# Altium footprint library 3313J1103E.PcbLib: 1 footprints
Each footprint in its own frame and in the unit in brackets; x right, y up, seen from the top. Pads: shape width x height; smd on the part's side, far side on the other; paste and mask are expansions set on the pad; w line width, h text height; cw(c..) or ccw(c..) is an arc to the next point about the centre after c.
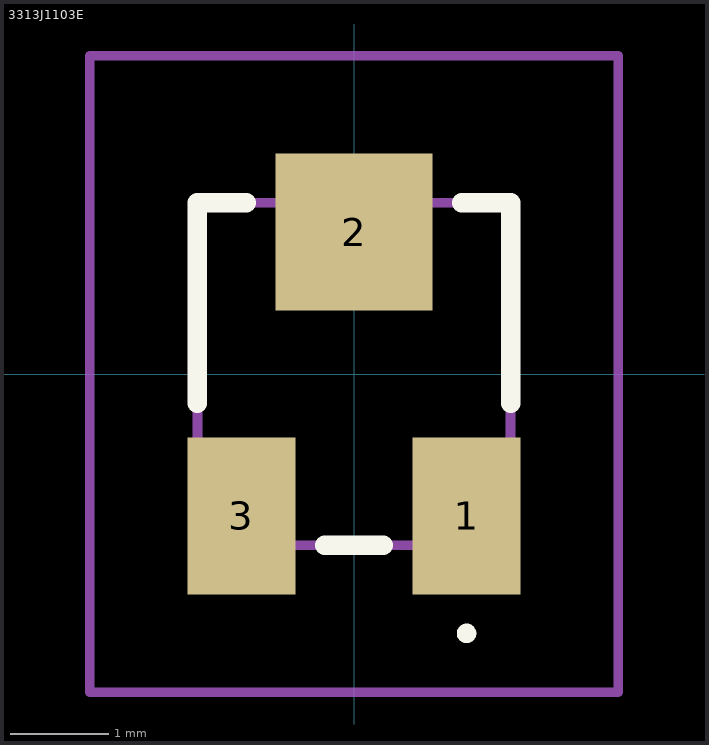
[diagram p0: the footprint, top view; thin cyan lines are the x and y axes]

## 3313J1103E [mm]
pads (3):
  rect 1.1x1.6 smd: 1(1.15,-1.45) 3(-1.15,-1.45)
  rect 1.6x1.6 smd: 2(0,1.45)
Top Overlay:
  lines w0.1: 1.15,-2.7 cw(c1.15,-2.65) 1.15,-2.6 ; 1.15,-2.7 1.15,-2.7 ; 1.15,-2.7 ccw(c1.15,-2.65) 1.15,-2.6 ; 1.15,-2.6 1.15,-2.6
  lines w0.2: -1.6,-0.3 -1.6,1.75 -1.1,1.75 ; -0.3,-1.75 0.3,-1.75 ; 1.1,1.75 1.6,1.75 1.6,-0.3
Mechanical 15:
  lines w0.1: -1.6,-1.75 1.6,-1.75 1.6,1.75 -1.6,1.75 -1.6,-1.75
Mechanical 20:
  lines w0.1: -2.7,-3.25 2.7,-3.25 2.7,3.25 -2.7,3.25 -2.7,-3.25